# Altium footprint library L1.PcbLib: 20 footprints (part 2 of 2)
Each footprint in its own frame and in the unit in brackets; x right, y up, seen from the top. Pads: shape width x height; smd on the part's side, far side on the other; paste and mask are expansions set on the pad; w line width, h text height; cw(c..) or ccw(c..) is an arc to the next point about the centre after c.
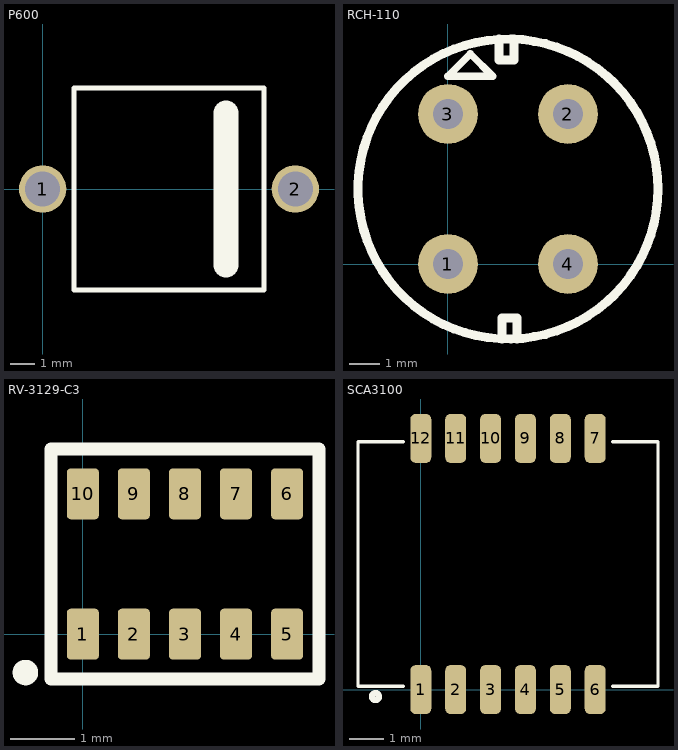
[diagram p1: the footprints below, top view; thin cyan lines are the x and y axes]

## P600 [mm]
pads (2):
  round 1.9 hole 1.4: 1(0,0) 2(10.16,0)
Top Overlay:
  lines w0.2: 1.27,-4.064 1.27,4.064 8.89,4.064 8.89,-4.064 1.27,-4.064
  lines w1: 7.366,-3.048 7.366,3.048
Top Assembly:
  text ".Designator" at -0.498,-0.333 h1
3D body "User Library-P600P600 (10_16mm).STEP": height 8.3, standoff -3.8, extent -0.59,-4.1 10.77,4.1

## RCH-110 [mm]
pads (4):
  round 2 hole 1: 1(0,0) 2(4,5) 3(0,5) 4(4,0)
Top Overlay:
  circle w0.3: c2,2.5 r5
  lines w0.25: 0,6.26 1.49,6.26 0.75,7 0.74,7 0,6.26
  lines w0.3: 1.7,7.5 1.7,6.8 2.2,6.8 2.2,7.5 ; 1.8,-2.5 1.8,-1.8 2.3,-1.8 2.3,-2.5
Top Assembly:
  text ".Designator" at 6.978,2.156 h1
3D body: height 10.5, standoff 0, extent -3.291,-2.76 7.209,7.74

## RV-3129-C3 [mm]
height 0.9
pads (10):
  rrect25% 0.5x0.8 smd: 1(0,0) 2(0.8,0) 3(1.6,0) 4(2.4,0) 5(3.2,0) 6(3.2,2.2) 7(2.4,2.2) 8(1.6,2.2) 9(0.8,2.2) 10(0,2.2)
Top Overlay:
  circle w0.2: c-0.9,-0.6 r0.1
  lines w0.2: -0.5,-0.7 -0.5,2.9 3.7,2.9 3.7,-0.7 -0.5,-0.7
Top Assembly:
  text ".Designator" at -3.398,0.767 h1
3D body "RV-3129-C3.stp": height 0.9, standoff 0, extent -0.25,-0.15 3.45,2.35

## SCA3100 [mm]
height 1
pads (12):
  rrect50% 0.6x1.4 smd: 1(0,0) 2(1,0) 3(2,0) 4(3,0) 5(4,0) 6(5,0) 7(5,7.2) 8(4,7.2) 9(3,7.2) 10(2,7.2) 11(1,7.2) 12(0,7.2)
Top Overlay:
  circle w0.178: c-1.3,-0.2 r0.1
  lines w0.1: -0.5,0.1 -1.8,0.1 -1.8,7.1 -0.5,7.1 ; 5.5,0.1 6.8,0.1 6.8,7.1 5.5,7.1
Top Assembly:
  text ".Designator" at -2.498,3.267 h1
3D body "User Library-SCA3100.STEP": height 3.3, standoff 0, extent -1.8,-0.2 6.8,7.4